# Altium footprint library PCB - CONNECTOR - MOLEX - MOLEX KK 0022272081.PCBLIB: 1 footprints
Each footprint in its own frame and in the unit in brackets; x right, y up, seen from the top. Pads: shape width x height; smd on the part's side, far side on the other; paste and mask are expansions set on the pad; w line width, h text height; cw(c..) or ccw(c..) is an arc to the next point about the centre after c.
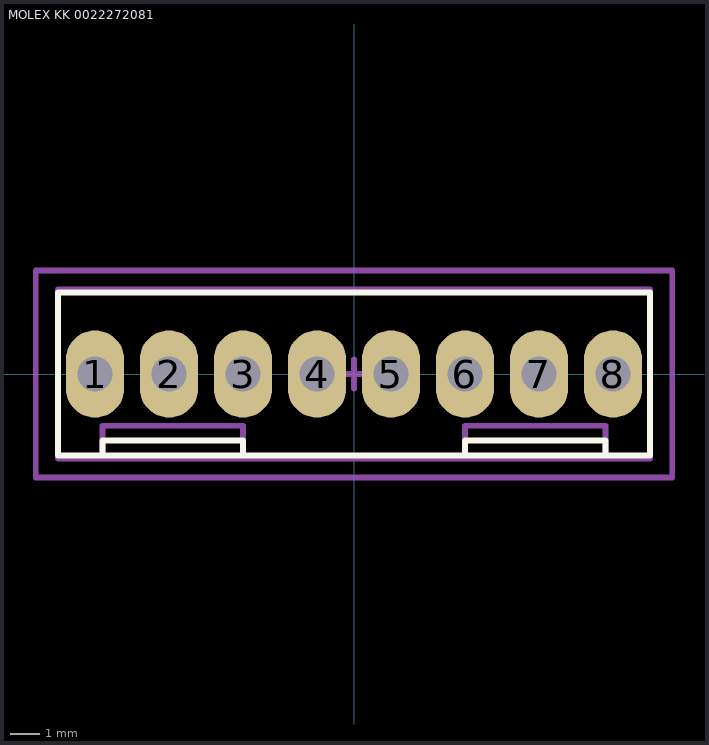
[diagram p0: the footprint, top view; thin cyan lines are the x and y axes]

## MOLEX KK 0022272081 [mm]
height 11.6
pads (8):
  oval 2x3 hole 1.2: 1(-8.89,0) 2(-6.35,0) 3(-3.81,0) 4(-1.27,0) 5(1.27,0) 6(3.81,0) 7(6.35,0) 8(8.89,0)
Top Overlay:
  lines w0.2: -8.636,-2.794 -8.636,-2.286 -3.81,-2.286 -3.81,-2.794 ; 3.81,-2.794 3.81,-2.286 8.636,-2.286 8.636,-2.794 ; -10.16,-2.794 10.16,-2.794 10.16,2.794 -10.16,2.794 -10.16,-2.794
Mechanical 13:
  lines w0.2: -8.636,-2.9 -8.636,-1.778 -3.81,-1.778 -3.81,-2.9 ; 3.81,-2.9 3.81,-1.778 8.636,-1.778 8.636,-2.9 ; -10.16,-2.9 -10.16,2.9 10.16,2.9 10.16,-2.9 -10.16,-2.9
Mechanical 15:
  lines w0.2: -0.508,0 0.508,0 ; 0,-0.508 0,0.508 ; -10.922,-3.556 -10.922,3.556 10.922,3.556 10.922,-1.016 10.922,-3.556 -10.922,-3.556
3D body "MOLEX KK 022272081.STEP": height 11.7, standoff -3.56, extent -10.16,-2.9 10.16,2.9